# Altium integrated library Analog Devices RF IF PLL Synthesizers and VCOs.IntLib: 183 symbols (part 8 of 15)
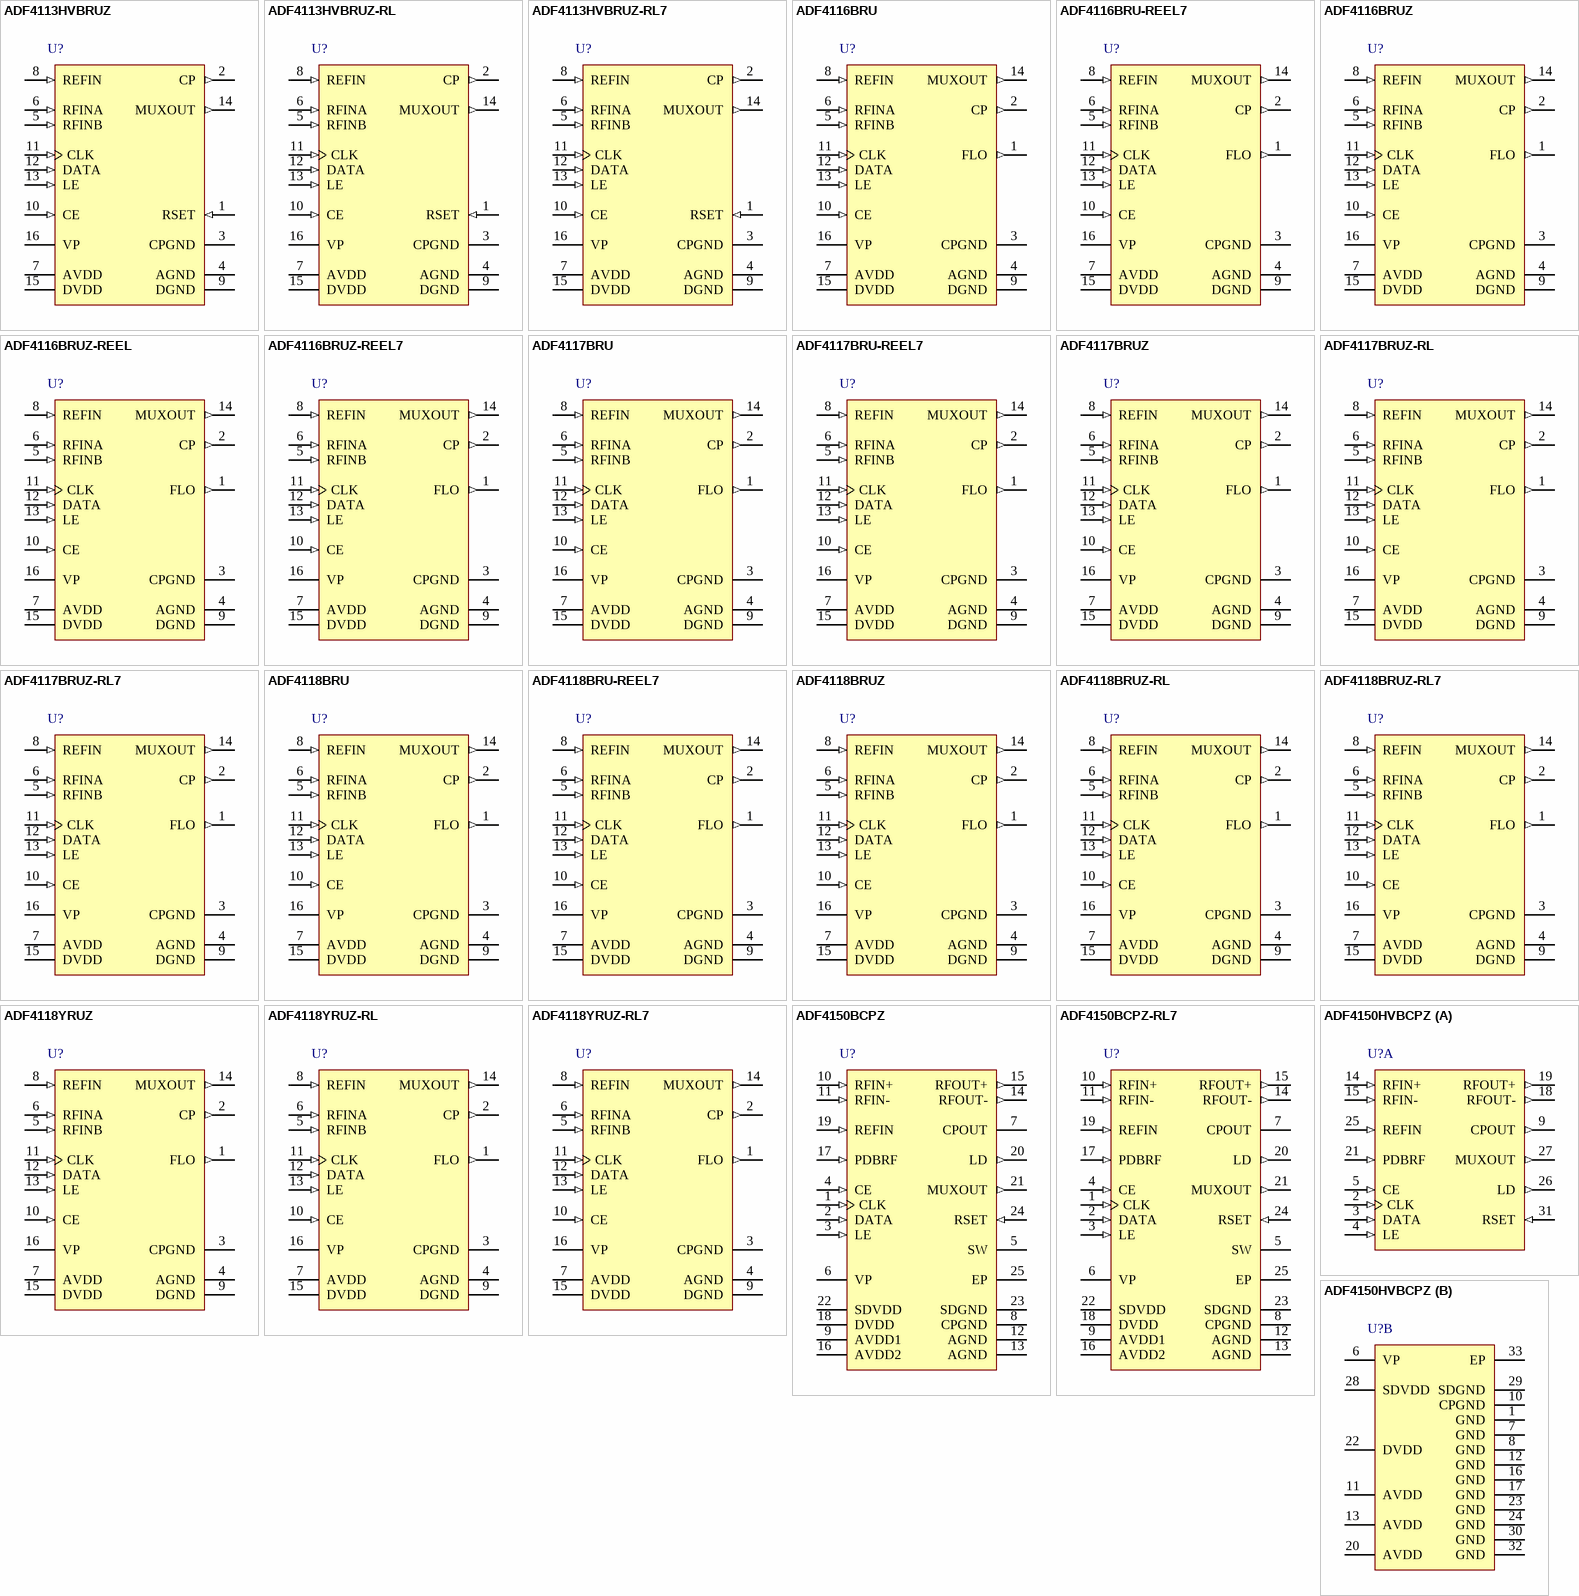
[diagram p15: symbols ADF4113HVBRUZ to ADF4150HVBCPZ]

## ADF4118YRUZ-RL7
designator U?
RF PLL Frequency Synthesizers, RU-16, Pb-Free, 1000 	Reel; Single/Dual: Single; Max RF Input (MHz): 3GHz; RF Prescalers: 32/33; Max REFin (MHz): 100MHz; Norm Phase Noise (dBc/Hz): -216dBc; Frequency Range: 100MHz-3GHz; Supply Current: 6.5mA; DatasheetVersion: Rev. D; PackageVersion: Nov-2002; PackageReference: RU-16; PackageDescription: 16-Lead Thin Shrink Small Outline Package [TSSOP]; Code_JEDEC: MO-153AB; ComponentLink1Description: Manufacturer URL; ComponentLink1URL: www.analog.com; ComponentLink2Description: Datasheet; ComponentLink2URL: http://www.analog.com/static/imported-files/data_sheets/ADF4116_4117_4118.pdf; ComponentLink3Description: Package Specification; ComponentLink3URL: http://www.analog.com/static/imported-files/packages/36244347913743854010197452789RU16.pdf
footprint ADI-RU-16_N (TSOP, 16-Leads, Body 5x4.4mm, Pitch 0.65mm, IPC Medium Density)
footprint ADI-RU-16_L (TSOP, 16-Leads, Body 5x4.4mm, Pitch 0.65mm, IPC High Density)
footprint ADI-RU-16_M (TSOP, 16-Leads, Body 5x4.4mm, Pitch 0.65mm, IPC Low Density)
pins: 1 FLO (out) "Fast Lock Switch Output. This can be used to switch an external resistor to change the loop filter bandwidth and speed up locking the PLL", 2 CP (out) "Charge Pump Output. When enabled, this provides the +/- ICP to the external loop filter, which in turn drives the external VCO.", 3 CPGND (power) "Charge Pump Ground. This is the ground return path for the charge pump", 4 AGND (power) "Analog Ground. This is the ground return path for the prescaler", 5 RFINB (in) "Complementary Input to the RF Prescaler. This point should be decoupled to the ground plane with a small bypass capacitor, typically 100 pF. See Figure 26", 6 RFINA (in) "Input to the RF Prescaler. This small signal input is ac-coupled from the VCO", 7 AVDD (power) "Analog Power Supply. This can range from 2.7 V to 5.5 V. Decoupling capacitors to the analog ground plane should be placed as close as possible to this pin. [see datasheet]", 8 REFIN (in) "Reference Input. This is a CMOS input with a nominal threshold of VDD/2 and an equivalent input resistance of 100 k ohm. See Figure 25. [see datasheet]", 9 DGND (power) "Digital Ground", 10 CE (in) "Chip Enable. A logic low on this pin powers down the device and puts the charge pump output into three-state mode. [see datasheet]", 11 CLK (in) "Serial Clock Input. This serial clock is used to clock in the serial data to the registers. The data is latched into the 21-bit shift register on the CLK rising edge. [see datasheet]", 12 DATA (in) "Serial Data Input. The serial data is loaded MSB first with the two LSBs as the control bits. This input is a high impedance CMOS input", 13 LE (in) "Load Enable, CMOS Input. When LE goes high, the data stored in the shift registers is loaded into one of the four latches, the latch being selected using the control bits", 14 MUXOUT (out) "This multiplexer output allows either the lock detect, the scaled RF, or the scaled reference frequency to be accessed externally", 15 DVDD (power) "Digital Power Supply. This can range from 2.7 V to 5.5 V. Decoupling capacitors to the digital ground plane (1 uF, 1 nF) should be placed as close as possible to this pin. [see datasheet]", 16 VP (power) "Charge Pump Power Supply. This should be greater than or equal to VDD. In systems where VDD is 3 V, this supply can be set to 6 V and used to drive a VCO with a tuning range of up to 6 V"

## ADF4150BCPZ
designator U?
Fractional-N/Integer-N PLL Synthesizer, CP-24-7, Pb-Free, 490 Tray; Single/Dual: Single; Max RF Input (MHz): 5GHz; RF Prescalers: 4/5, 8/9; Max REFin (MHz): 250MHz; Norm Phase Noise (dBc/Hz): -223dBc; Frequency Range: 500MHz-5GHz; Supply Current: 50mA; DatasheetVersion: Rev. 0; PackageVersion: 112108-A; PackageReference: CP-24-7; PackageDescription: 24-Lead Lead Frame Chip Scale Package [LFCSP_WQ]; Code_JEDEC: MO-220-WGGD; ComponentLink1Description: Manufacturer URL; ComponentLink1URL: www.analog.com; ComponentLink2Description: Datasheet; ComponentLink2URL: http://www.analog.com/static/imported-files/data_sheets/ADF4150.pdf; ComponentLink3Description: Package Specification; ComponentLink3URL: http://www.analog.com/static/imported-files/packages/PKG_PDF/LFCSP(CP)/CP_24_7.pdf
footprint ADI-CP-24-7_N (QFN, 24-Leads, Body 4x4mm, Pitch 0.5mm, Thermal Pad 2.6x2.6mm, IPC Medium Density)
footprint ADI-CP-24-7_L (QFN, 24-Leads, Body 4x4mm, Pitch 0.5mm, Thermal Pad 2.6x2.6mm, IPC High Density)
footprint ADI-CP-24-7_M (QFN, 24-Leads, Body 4x4mm, Pitch 0.5mm, Thermal Pad 2.6x2.6mm, IPC Low Density)
pins: 1 CLK (in) "Serial Clock Input. Data is clocked into the 32-bit shift register on the CLK rising edge. This input is a high impedance CMOS input.", 2 DATA (in) "Serial Data Input. The serial data is loaded MSB first with the three LSBs as the control bits. This input is a high impedance CMOS input.", 3 LE (in) "Load Enable, CMOS Input. When LE goes high, the data stored in the shift register is loaded into the register that is selected by the three LSBs.", 4 CE (in) "Chip Enable. A logic low on this pin powers down the device and puts the charge pump into three-state mode. [see datasheet]", 5 SW "Fastlock Switch. Make a connection to this pin from the loop filter when using the fastlock mode.", 6 VP (power) "Charge Pump Power Supply. This pin should be greater than or equal to AVDD. In systems where AVDD is 3 V, it can be set to 5.5 V and used to drive a VCO with a tuning range of up to 5.5 V.", 7 CPOUT (power) "Charge Pump Output. When enabled, this provides +/-ICP to the external loop filter. The output of the loop filter is connected to VTUNE to drive the external VCO.", 8 CPGND (power) "Charge Pump Ground. This is the ground return pin for CPOUT.", 9 AVDD1 (power) "Analog Power Supply. This pin ranges from 3.0 V to 3.6 V. Decoupling capacitors to the analog ground plane are to be placed as close as possible to this pin. [see datasheet]", 10 RFIN+ (in) "Input to the RF Input. This small signal input is ac-coupled to the external VCO.", 11 RFIN- (in) "Complementary Input to the RF Input. This point must be decoupled to the ground plane with a small bypass capacitor, typically 100 pF.", 12 AGND (power) "Analog Ground. This is a ground return pin for AVDD1 and AVDD2.", 13 AGND (power) "Analog Ground. This is a ground return pin for AVDD1 and AVDD2.", 14 RFOUT- (out) "Complementary RF Output. The output level is programmable. The VCO fundamental output or a divided down version is available.", 15 RFOUT+ (out) "RF Output. The output level is programmable. The VCO fundamental output or a divided down version is available.", 16 AVDD2 (power) "Analog Power Supply. This pin ranges from 3.0 V to 3.6 V. Decoupling capacitors to the analog ground plane are to be placed as close as possible to this pin. [see datasheet]", 17 PDBRF (in) "RF Power-Down. A logic low on this pin mutes the RF outputs. This function is also software controllable.", 18 DVDD (power) "Digital Power Supply. This pin should be the same voltage as AVDD. Place decoupling capacitors to the ground plane as close as possible to this pin.", 19 REFIN (in) "Reference Input. This is a CMOS input with a nominal threshold of VDD/2 and a dc equivalent input resistance of 100 k ohm. [see datasheet]", 20 LD (out) "Lock Detect Output Pin. This pin outputs a logic high to indicate PLL lock; a logic low output indicates loss of PLL lock.", 21 MUXOUT (out) "Multiplexer Output. This multiplexer output allows either the lock detect, the scaled RF, or the scaled reference frequency to be accessed externally.", 22 SDVDD (power) "Power Supply Pin for the Digital Sigma-Delta (Sigma-Delta) Modulator. This pin should be the same voltage as AVDD. [see datasheet]", 23 SDGND (power) "Power Supply Pin for the Digital Sigma-Delta (Sigma-Delta) Modulator. This pin should be the same voltage as AVDD. [see datasheet]", 24 RSET (in) "Connecting a resistor between this pin and GND sets the charge pump output current. The nominal voltage bias at the RSET pin is 0.48 V.", 25 EP (power) "The exposed pad must be connected to GND."

## ADF4150BCPZ-RL7
designator U?
Fractional-N/Integer-N PLL Synthesizer, CP-24-7, Pb-Free, 1500 Reel; Single/Dual: Single; Max RF Input (MHz): 5GHz; RF Prescalers: 4/5, 8/9; Max REFin (MHz): 250MHz; Norm Phase Noise (dBc/Hz): -223dBc; Frequency Range: 500MHz-5GHz; Supply Current: 50mA; DatasheetVersion: Rev. 0; PackageVersion: 112108-A; PackageReference: CP-24-7; PackageDescription: 24-Lead Lead Frame Chip Scale Package [LFCSP_WQ]; Code_JEDEC: MO-220-WGGD; ComponentLink1Description: Manufacturer URL; ComponentLink1URL: www.analog.com; ComponentLink2Description: Datasheet; ComponentLink2URL: http://www.analog.com/static/imported-files/data_sheets/ADF4150.pdf; ComponentLink3Description: Package Specification; ComponentLink3URL: http://www.analog.com/static/imported-files/packages/PKG_PDF/LFCSP(CP)/CP_24_7.pdf
footprint ADI-CP-24-7_N (QFN, 24-Leads, Body 4x4mm, Pitch 0.5mm, Thermal Pad 2.6x2.6mm, IPC Medium Density)
footprint ADI-CP-24-7_L (QFN, 24-Leads, Body 4x4mm, Pitch 0.5mm, Thermal Pad 2.6x2.6mm, IPC High Density)
footprint ADI-CP-24-7_M (QFN, 24-Leads, Body 4x4mm, Pitch 0.5mm, Thermal Pad 2.6x2.6mm, IPC Low Density)
pins: 1 CLK (in) "Serial Clock Input. Data is clocked into the 32-bit shift register on the CLK rising edge. This input is a high impedance CMOS input.", 2 DATA (in) "Serial Data Input. The serial data is loaded MSB first with the three LSBs as the control bits. This input is a high impedance CMOS input.", 3 LE (in) "Load Enable, CMOS Input. When LE goes high, the data stored in the shift register is loaded into the register that is selected by the three LSBs.", 4 CE (in) "Chip Enable. A logic low on this pin powers down the device and puts the charge pump into three-state mode. [see datasheet]", 5 SW "Fastlock Switch. Make a connection to this pin from the loop filter when using the fastlock mode.", 6 VP (power) "Charge Pump Power Supply. This pin should be greater than or equal to AVDD. In systems where AVDD is 3 V, it can be set to 5.5 V and used to drive a VCO with a tuning range of up to 5.5 V.", 7 CPOUT (power) "Charge Pump Output. When enabled, this provides +/-ICP to the external loop filter. The output of the loop filter is connected to VTUNE to drive the external VCO.", 8 CPGND (power) "Charge Pump Ground. This is the ground return pin for CPOUT.", 9 AVDD1 (power) "Analog Power Supply. This pin ranges from 3.0 V to 3.6 V. Decoupling capacitors to the analog ground plane are to be placed as close as possible to this pin. [see datasheet]", 10 RFIN+ (in) "Input to the RF Input. This small signal input is ac-coupled to the external VCO.", 11 RFIN- (in) "Complementary Input to the RF Input. This point must be decoupled to the ground plane with a small bypass capacitor, typically 100 pF.", 12 AGND (power) "Analog Ground. This is a ground return pin for AVDD1 and AVDD2.", 13 AGND (power) "Analog Ground. This is a ground return pin for AVDD1 and AVDD2.", 14 RFOUT- (out) "Complementary RF Output. The output level is programmable. The VCO fundamental output or a divided down version is available.", 15 RFOUT+ (out) "RF Output. The output level is programmable. The VCO fundamental output or a divided down version is available.", 16 AVDD2 (power) "Analog Power Supply. This pin ranges from 3.0 V to 3.6 V. Decoupling capacitors to the analog ground plane are to be placed as close as possible to this pin. [see datasheet]", 17 PDBRF (in) "RF Power-Down. A logic low on this pin mutes the RF outputs. This function is also software controllable.", 18 DVDD (power) "Digital Power Supply. This pin should be the same voltage as AVDD. Place decoupling capacitors to the ground plane as close as possible to this pin.", 19 REFIN (in) "Reference Input. This is a CMOS input with a nominal threshold of VDD/2 and a dc equivalent input resistance of 100 k ohm. [see datasheet]", 20 LD (out) "Lock Detect Output Pin. This pin outputs a logic high to indicate PLL lock; a logic low output indicates loss of PLL lock.", 21 MUXOUT (out) "Multiplexer Output. This multiplexer output allows either the lock detect, the scaled RF, or the scaled reference frequency to be accessed externally.", 22 SDVDD (power) "Power Supply Pin for the Digital Sigma-Delta (Sigma-Delta) Modulator. This pin should be the same voltage as AVDD. [see datasheet]", 23 SDGND (power) "Power Supply Pin for the Digital Sigma-Delta (Sigma-Delta) Modulator. This pin should be the same voltage as AVDD. [see datasheet]", 24 RSET (in) "Connecting a resistor between this pin and GND sets the charge pump output current. The nominal voltage bias at the RSET pin is 0.48 V.", 25 EP (power) "The exposed pad must be connected to GND."

## ADF4150HVBCPZ
designator U?
High Voltage, Fractional-N/Integer-N PLL Synthesizer, CP-32-11, Pb-Free, 490 Tray; Single/Dual: Single; Max RF Input (MHz): 3GHz; RF Prescalers: 4/5, 8/9; Max REFin (MHz): 250MHz; Norm Phase Noise (dBc/Hz): -213dBc; Frequency Range: 500MHz-3GHz; Supply Current: 50mA; DatasheetVersion: Rev. 0; PackageVersion: 011708-A; PackageReference: CP-32-11; PackageDescription: 32-Lead Lead Frame Chip Scale Package [LFCSP_VQ]; ComponentLink1Description: Manufacturer URL; ComponentLink1URL: www.analog.com; ComponentLink2Description: Datasheet; ComponentLink2URL: http://www.analog.com/static/imported-files/data_sheets/ADF4150HV.pdf; ComponentLink3Description: Package Specification; ComponentLink3URL: http://www.analog.com/static/imported-files/packages/PKG_PDF/LFCSP(CP)/CP-32/CP_32_11.pdf
footprint ADI-CP-32-11_N (QFN, 32-Leads, Body 5x5mm, Pitch 0.5mm, Thermal Pad 3.6x3.6mm, IPC Medium Density)
footprint ADI-CP-32-11_L (QFN, 32-Leads, Body 5x5mm, Pitch 0.5mm, Thermal Pad 3.6x3.6mm, IPC High Density)
footprint ADI-CP-32-11_M (QFN, 32-Leads, Body 5x5mm, Pitch 0.5mm, Thermal Pad 3.6x3.6mm, IPC Low Density)
part A pins: 2 CLK (in) "Serial Clock Input. Data is clocked into the 32-bit shift register on the CLK rising edge. This input is a high impedance CMOS input.", 3 DATA (in) "Serial Data Input. The serial data is loaded MSB first with the three LSBs as the control bits. This input is a high impedance CMOS input.", 4 LE (in) "Load Enable. When LE goes high, the data stored in the 32-bit shift register is loaded into the register that is selected by the three control bits. [see datasheet]", 5 CE (in) "Chip Enable. A logic low on this pin powers down the device and puts the charge pump into three-state mode. A logic high on this pin powers up the device.", 9 CPOUT (out) "High Voltage Charge Pump Output. When enabled, this output provides +/-ICP to the external passive loop filter. [see datasheet]", 14 RFIN+ (in) "Positive RF Input. The output of the VCO or external prescaler should be ac-coupled to this pin.", 15 RFIN- (in) "Complementary RF Input. If a single-ended input is required, this pin can be tied to ground via a 100 pF capacitor.", 18 RFOUT- (out) "Divided-Down Output of RFIN-. This pin can be left unconnected if the divider functionality is not required.", 19 RFOUT+ (out) "Divided-Down Output of RFIN+. This pin can be left unconnected if the divider functionality is not required.", 21 PDBRF (in) "RF Power-Down. A logic low on this pin mutes the RF outputs. This function is also software controllable.", 25 REFIN (in) "Reference Input. This CMOS input has a nominal threshold of AVDD/2 and a dc equivalent input resistance of 100 k ohm. [see datasheet]", 26 LD (out) "Lock Detect Output. A logic high output on this pin indicates PLL lock. A logic low output indicates loss of PLL lock.", 27 MUXOUT (out) "Multiplexer Output. The multiplexer output allows the lock detect, the N divider value, or the R counter value to be accessed externally.", 31 RSET (in) "Connecting a resistor between this pin and GND sets the charge pump output current. Place the resistor as close to this pin as possible. The nominal voltage bias at the RSET pin is 0.55 V."
part B pins: 1 GND (power) "Ground. All ground pins should be tied together.", 6 VP (power) "High Voltage Charge Pump Power Supply. Place decoupling capacitors to the ground plane as close to this pin as possible. The decoupling capacitors should have the appropriate voltage rating (a value of 10 uF is recommended). [see datasheet]", 7 GND (power) "Ground. All ground pins should be tied together.", 8 GND (power) "Ground. All ground pins should be tied together.", 10 CPGND (power) "High Voltage Charge Pump Ground. All ground pins should be tied together.", 11 AVDD (power) "Analog Power Supply. This pin ranges from 3.0 V to 3.6 V. Place decoupling capacitors to the ground plane as close to this pin as possible. AVDD must have the same value as DVDD.", 12 GND (power) "Ground. All ground pins should be tied together.", 13 AVDD (power) "Analog Power Supply. This pin ranges from 3.0 V to 3.6 V. Place decoupling capacitors to the ground plane as close to this pin as possible. AVDD must have the same value as DVDD.", 16 GND (power) "Ground. All ground pins should be tied together.", 17 GND (power) "Ground. All ground pins should be tied together.", 20 AVDD (power) "Analog Power Supply. This pin ranges from 3.0 V to 3.6 V. Place decoupling capacitors to the ground plane as close to this pin as possible. AVDD must have the same value as DVDD.", 22 DVDD (power) "Digital Power Supply. Place decoupling capacitors to the ground plane as close to this pin as possible. DVDD must have the same value as AVDD.", 23 GND (power) "Ground. All ground pins should be tied together.", 24 GND (power) "Ground. All ground pins should be tied together.", 28 SDVDD (power) "Digital Sigma-Delta Modulator Power Supply. Place decoupling capacitors to the ground plane as close to this pin as possible. SDVDD must have the same value as AVDD.", 29 SDGND (power) "Digital Sigma-Delta Modulator Ground. All ground pins should be tied together.", 30 GND (power) "Ground. All ground pins should be tied together.", 32 GND (power) "Ground. All ground pins should be tied together.", 33 EP (power) "Exposed Pad. The LFCSP has an exposed pad that must be connected to GND."

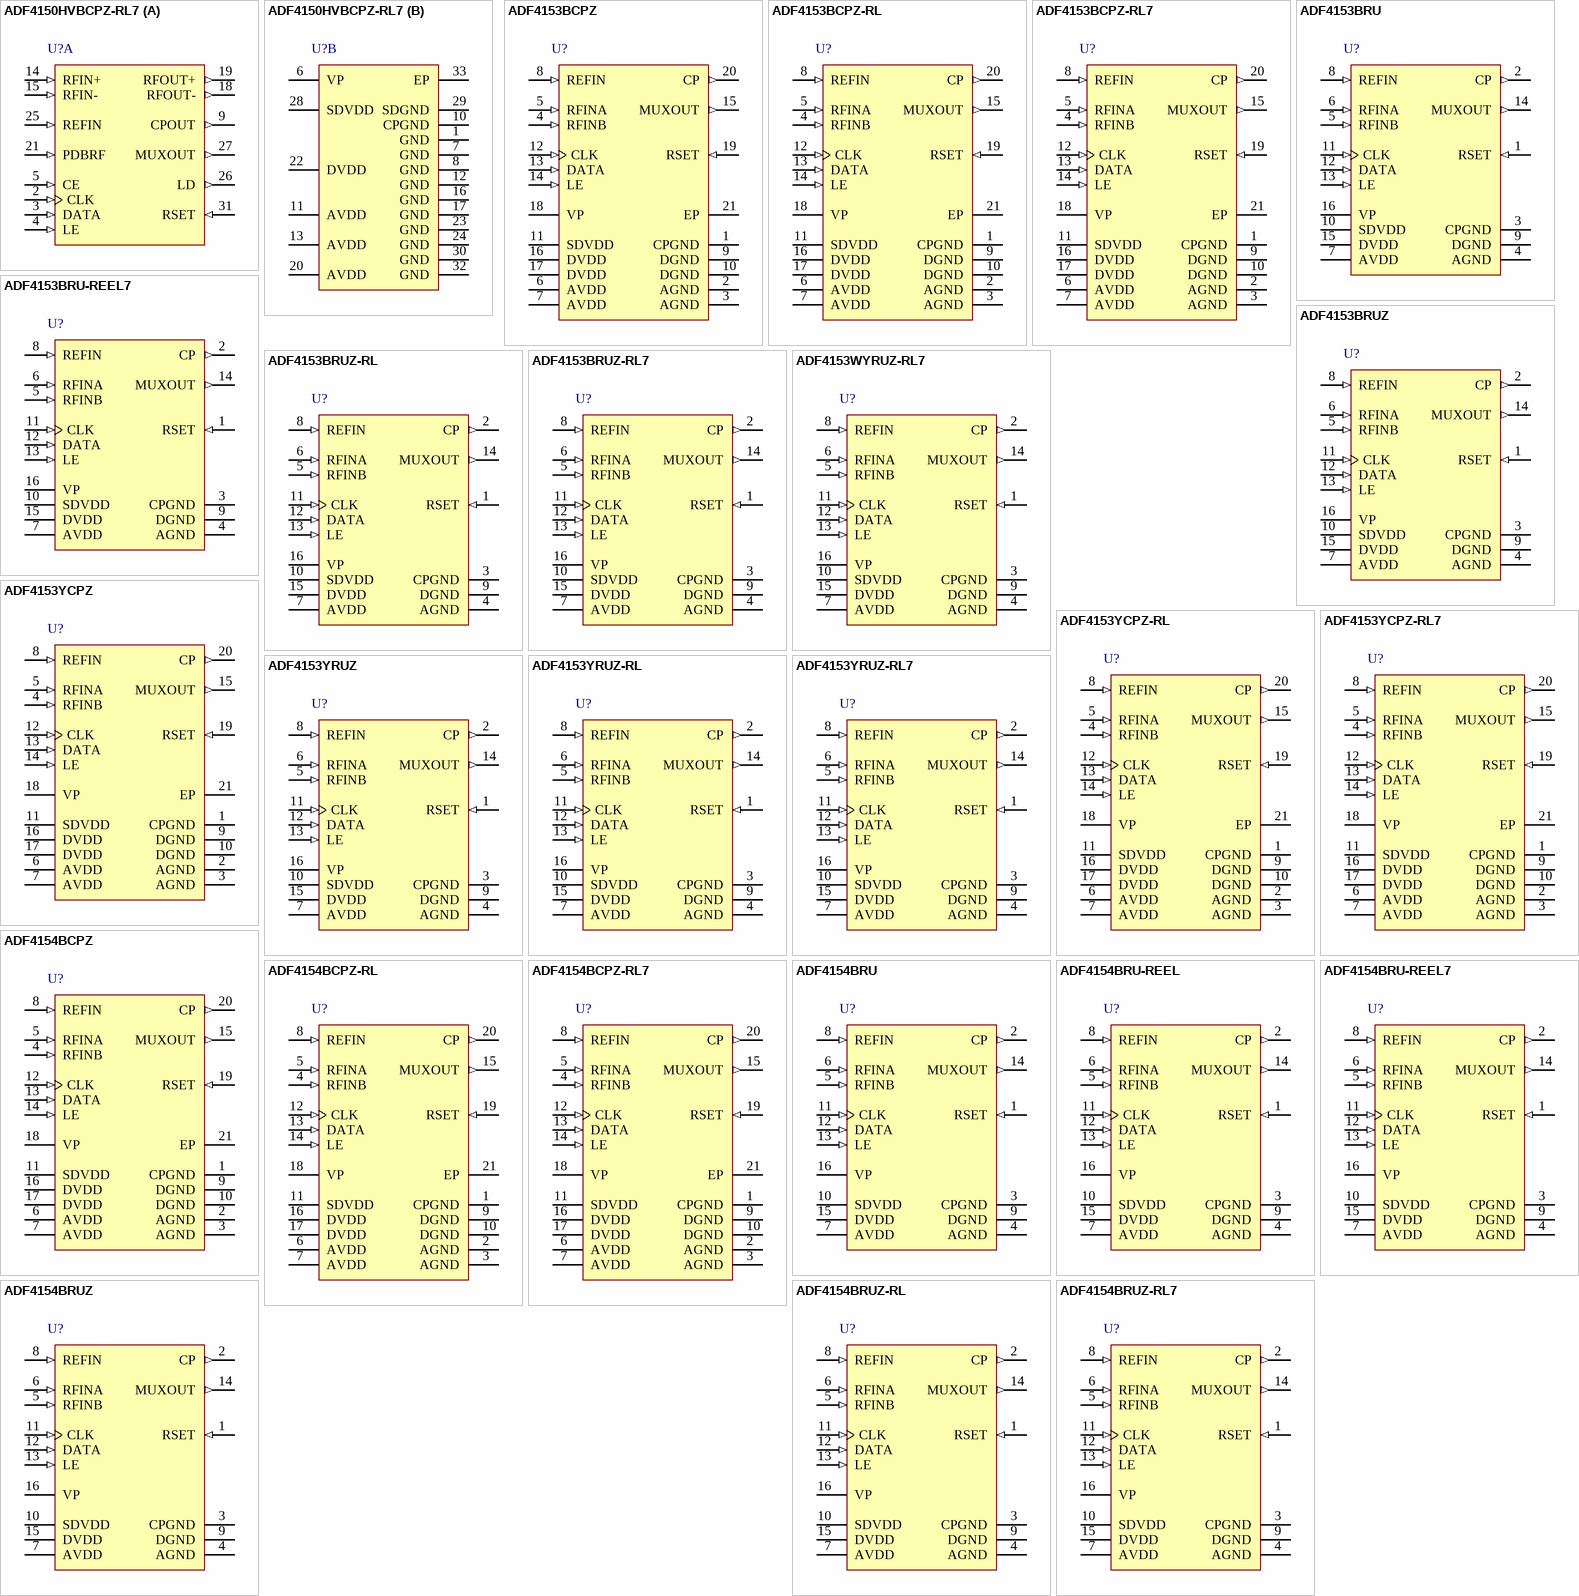
[diagram p4: symbols ADF4150HVBCPZ-RL7 to ADF4154BRUZ-RL7]

## ADF4150HVBCPZ-RL7
designator U?
High Voltage, Fractional-N/Integer-N PLL Synthesizer, CP-32-11, Pb-Free, 1500 Reel; Single/Dual: Single; Max RF Input (MHz): 3GHz; RF Prescalers: 4/5, 8/9; Max REFin (MHz): 250MHz; Norm Phase Noise (dBc/Hz): -213dBc; Frequency Range: 500MHz-3GHz; Supply Current: 50mA; DatasheetVersion: Rev. 0; PackageVersion: 011708-A; PackageReference: CP-32-11; PackageDescription: 32-Lead Lead Frame Chip Scale Package [LFCSP_VQ]; ComponentLink1Description: Manufacturer URL; ComponentLink1URL: www.analog.com; ComponentLink2Description: Datasheet; ComponentLink2URL: http://www.analog.com/static/imported-files/data_sheets/ADF4150HV.pdf; ComponentLink3Description: Package Specification; ComponentLink3URL: http://www.analog.com/static/imported-files/packages/PKG_PDF/LFCSP(CP)/CP-32/CP_32_11.pdf
footprint ADI-CP-32-11_N (QFN, 32-Leads, Body 5x5mm, Pitch 0.5mm, Thermal Pad 3.6x3.6mm, IPC Medium Density)
footprint ADI-CP-32-11_L (QFN, 32-Leads, Body 5x5mm, Pitch 0.5mm, Thermal Pad 3.6x3.6mm, IPC High Density)
footprint ADI-CP-32-11_M (QFN, 32-Leads, Body 5x5mm, Pitch 0.5mm, Thermal Pad 3.6x3.6mm, IPC Low Density)
part A pins: 2 CLK (in) "Serial Clock Input. Data is clocked into the 32-bit shift register on the CLK rising edge. This input is a high impedance CMOS input.", 3 DATA (in) "Serial Data Input. The serial data is loaded MSB first with the three LSBs as the control bits. This input is a high impedance CMOS input.", 4 LE (in) "Load Enable. When LE goes high, the data stored in the 32-bit shift register is loaded into the register that is selected by the three control bits. [see datasheet]", 5 CE (in) "Chip Enable. A logic low on this pin powers down the device and puts the charge pump into three-state mode. A logic high on this pin powers up the device.", 9 CPOUT (out) "High Voltage Charge Pump Output. When enabled, this output provides +/-ICP to the external passive loop filter. [see datasheet]", 14 RFIN+ (in) "Positive RF Input. The output of the VCO or external prescaler should be ac-coupled to this pin.", 15 RFIN- (in) "Complementary RF Input. If a single-ended input is required, this pin can be tied to ground via a 100 pF capacitor.", 18 RFOUT- (out) "Divided-Down Output of RFIN-. This pin can be left unconnected if the divider functionality is not required.", 19 RFOUT+ (out) "Divided-Down Output of RFIN+. This pin can be left unconnected if the divider functionality is not required.", 21 PDBRF (in) "RF Power-Down. A logic low on this pin mutes the RF outputs. This function is also software controllable.", 25 REFIN (in) "Reference Input. This CMOS input has a nominal threshold of AVDD/2 and a dc equivalent input resistance of 100 k ohm. [see datasheet]", 26 LD (out) "Lock Detect Output. A logic high output on this pin indicates PLL lock. A logic low output indicates loss of PLL lock.", 27 MUXOUT (out) "Multiplexer Output. The multiplexer output allows the lock detect, the N divider value, or the R counter value to be accessed externally.", 31 RSET (in) "Connecting a resistor between this pin and GND sets the charge pump output current. Place the resistor as close to this pin as possible. The nominal voltage bias at the RSET pin is 0.55 V."
part B pins: 1 GND (power) "Ground. All ground pins should be tied together.", 6 VP (power) "High Voltage Charge Pump Power Supply. Place decoupling capacitors to the ground plane as close to this pin as possible. The decoupling capacitors should have the appropriate voltage rating (a value of 10 uF is recommended). [see datasheet]", 7 GND (power) "Ground. All ground pins should be tied together.", 8 GND (power) "Ground. All ground pins should be tied together.", 10 CPGND (power) "High Voltage Charge Pump Ground. All ground pins should be tied together.", 11 AVDD (power) "Analog Power Supply. This pin ranges from 3.0 V to 3.6 V. Place decoupling capacitors to the ground plane as close to this pin as possible. AVDD must have the same value as DVDD.", 12 GND (power) "Ground. All ground pins should be tied together.", 13 AVDD (power) "Analog Power Supply. This pin ranges from 3.0 V to 3.6 V. Place decoupling capacitors to the ground plane as close to this pin as possible. AVDD must have the same value as DVDD.", 16 GND (power) "Ground. All ground pins should be tied together.", 17 GND (power) "Ground. All ground pins should be tied together.", 20 AVDD (power) "Analog Power Supply. This pin ranges from 3.0 V to 3.6 V. Place decoupling capacitors to the ground plane as close to this pin as possible. AVDD must have the same value as DVDD.", 22 DVDD (power) "Digital Power Supply. Place decoupling capacitors to the ground plane as close to this pin as possible. DVDD must have the same value as AVDD.", 23 GND (power) "Ground. All ground pins should be tied together.", 24 GND (power) "Ground. All ground pins should be tied together.", 28 SDVDD (power) "Digital Sigma-Delta Modulator Power Supply. Place decoupling capacitors to the ground plane as close to this pin as possible. SDVDD must have the same value as AVDD.", 29 SDGND (power) "Digital Sigma-Delta Modulator Ground. All ground pins should be tied together.", 30 GND (power) "Ground. All ground pins should be tied together.", 32 GND (power) "Ground. All ground pins should be tied together.", 33 EP (power) "Exposed Pad. The LFCSP has an exposed pad that must be connected to GND."

## ADF4153BCPZ
designator U?
Fractional-N Frequency Synthesizer, CP-20-1, Pb-Free, 490 Tray; Single/Dual: Single; Max RF Input (MHz): 4GHz; RF Prescalers: 4/5, 8/9; Max REFin (MHz): 250MHz; Norm Phase Noise (dBc/Hz): -220dBc; Supply Current: 20mA; DatasheetVersion: RevD; PackageVersion: 012508-B; PackageReference: CP-20-1; PackageDescription: 20-Lead Lead Frame Chip Scale Package [LFCSP_VQ]; Code_JEDEC: MO-220-VGGD-1; ComponentLink1Description: Manufacturer URL; ComponentLink1URL: www.analog.com; ComponentLink2Description: Datasheet; ComponentLink2URL: http://www.analog.com/static/imported-files/data_sheets/ADF4153.pdf; ComponentLink3Description: Package Specification; ComponentLink3URL: http://www.analog.com/static/imported-files/packages/PKG_PDF/LFCSP(CP)/CP_20_1.pdf
footprint ADI-CP-20-1_N (QFN, 20-Leads, Body 4x4mm, Pitch 0.5mm, Thermal Pad 2.2x2.2mm, IPC Medium Density)
footprint ADI-CP-20-1_L (QFN, 20-Leads, Body 4x4mm, Pitch 0.5mm, Thermal Pad 2.2x2.2mm, IPC High Density)
footprint ADI-CP-20-1_M (QFN, 20-Leads, Body 4x4mm, Pitch 0.5mm, Thermal Pad 2.2x2.2mm, IPC Low Density)
pins: 1 CPGND (power) "Charge Pump Ground. This is the ground return path for the charge pump.", 2 AGND (power) "Analog Ground. This is the ground return path of the prescaler.", 3 AGND (power) "Analog Ground. This is the ground return path of the prescaler.", 4 RFINB (in) "Complementary Input to the RF Prescaler. This pin should be decoupled to the ground plane with a small bypass capacitor, typically 100 pF", 5 RFINA (in) "Input to the RF Prescaler. This small signal input is normally ac-coupled from the VCO.", 6 AVDD (power) "Positive Power Supply for the RF Section. Decoupling capacitors to the digital ground plane should be placed as close as possible to this pin. [see datasheet]", 7 AVDD (power) "Positive Power Supply for the RF Section. Decoupling capacitors to the digital ground plane should be placed as close as possible to this pin. [see datasheet]", 8 REFIN (in) "Reference Input. This is a CMOS input with a nominal threshold of VDD/2 and an equivalent input resistance of 100 k ohm. [see datasheet]", 9 DGND (power) "Digital Ground.", 10 DGND (power) "Digital Ground.", 11 SDVDD (power) "Sigma-delta Power. Decoupling capacitors to the digital ground plane should be placed as close as possible to this pin. SDVDD has a value of 3 V +/- 10%. [see datasheet]", 12 CLK (in) "Serial Clock Input. The serial clock is used to clock in the serial data to the registers. The data is latched into the shift register on the CLK rising edge. [see datasheet]", 13 DATA (in) "Serial Data Input. The serial data is loaded MSB first; the two LSBs are the control bits. This input is a high impedance CMOS input.", 14 LE (in) "Load Enable, CMOS Input. When LE is high, the data stored in the shift registers is loaded into one of four latches; the latch is selected using the control bits.", 15 MUXOUT (out) "This multiplexer output allows either the RF lock detect, the scaled RF, or the scaled reference frequency to be externally accessed.", 16 DVDD (power) "Positive Power Supply for the Digital Section. Decoupling capacitors to the digital ground plane should be placed as close as possible to this pin. [see datasheet]", 17 DVDD (power) "Positive Power Supply for the Digital Section. Decoupling capacitors to the digital ground plane should be placed as close as possible to this pin. [see datasheet]", 18 VP (power) "Charge Pump Power Supply. This should be greater than or equal to VDD. In systems where VDD is 3 V, it can be set to 5.5 V and used to drive a VCO with a tuning range of up to 5.5 V.", 19 RSET (in) "Connecting a resistor between RSET and ground sets the maximum charge pump output current", 20 CP (out) "Charge Pump Output. When enabled, CP provides +/-ICP to the external loop filter, which in turn drives the external VCO.", 21 EP (power) "Exposed Pad. The exposed pad must be connected to AGND."

## ADF4153BCPZ-RL
designator U?
Fractional-N Frequency Synthesizer, CP-20-1, Pb-Free, 5000 Reel; Single/Dual: Single; Max RF Input (MHz): 4GHz; RF Prescalers: 4/5, 8/9; Max REFin (MHz): 250MHz; Norm Phase Noise (dBc/Hz): -220dBc; Supply Current: 20mA; DatasheetVersion: RevD; PackageVersion: 012508-B; PackageReference: CP-20-1; PackageDescription: 20-Lead Lead Frame Chip Scale Package [LFCSP_VQ]; Code_JEDEC: MO-220-VGGD-1; ComponentLink1Description: Manufacturer URL; ComponentLink1URL: www.analog.com; ComponentLink2Description: Datasheet; ComponentLink2URL: http://www.analog.com/static/imported-files/data_sheets/ADF4153.pdf; ComponentLink3Description: Package Specification; ComponentLink3URL: http://www.analog.com/static/imported-files/packages/PKG_PDF/LFCSP(CP)/CP_20_1.pdf
footprint ADI-CP-20-1_N (QFN, 20-Leads, Body 4x4mm, Pitch 0.5mm, Thermal Pad 2.2x2.2mm, IPC Medium Density)
footprint ADI-CP-20-1_L (QFN, 20-Leads, Body 4x4mm, Pitch 0.5mm, Thermal Pad 2.2x2.2mm, IPC High Density)
footprint ADI-CP-20-1_M (QFN, 20-Leads, Body 4x4mm, Pitch 0.5mm, Thermal Pad 2.2x2.2mm, IPC Low Density)
pins: 1 CPGND (power) "Charge Pump Ground. This is the ground return path for the charge pump.", 2 AGND (power) "Analog Ground. This is the ground return path of the prescaler.", 3 AGND (power) "Analog Ground. This is the ground return path of the prescaler.", 4 RFINB (in) "Complementary Input to the RF Prescaler. This pin should be decoupled to the ground plane with a small bypass capacitor, typically 100 pF", 5 RFINA (in) "Input to the RF Prescaler. This small signal input is normally ac-coupled from the VCO.", 6 AVDD (power) "Positive Power Supply for the RF Section. Decoupling capacitors to the digital ground plane should be placed as close as possible to this pin. [see datasheet]", 7 AVDD (power) "Positive Power Supply for the RF Section. Decoupling capacitors to the digital ground plane should be placed as close as possible to this pin. [see datasheet]", 8 REFIN (in) "Reference Input. This is a CMOS input with a nominal threshold of VDD/2 and an equivalent input resistance of 100 k ohm. [see datasheet]", 9 DGND (power) "Digital Ground.", 10 DGND (power) "Digital Ground.", 11 SDVDD (power) "Sigma-delta Power. Decoupling capacitors to the digital ground plane should be placed as close as possible to this pin. SDVDD has a value of 3 V +/- 10%. [see datasheet]", 12 CLK (in) "Serial Clock Input. The serial clock is used to clock in the serial data to the registers. The data is latched into the shift register on the CLK rising edge. [see datasheet]", 13 DATA (in) "Serial Data Input. The serial data is loaded MSB first; the two LSBs are the control bits. This input is a high impedance CMOS input.", 14 LE (in) "Load Enable, CMOS Input. When LE is high, the data stored in the shift registers is loaded into one of four latches; the latch is selected using the control bits.", 15 MUXOUT (out) "This multiplexer output allows either the RF lock detect, the scaled RF, or the scaled reference frequency to be externally accessed.", 16 DVDD (power) "Positive Power Supply for the Digital Section. Decoupling capacitors to the digital ground plane should be placed as close as possible to this pin. [see datasheet]", 17 DVDD (power) "Positive Power Supply for the Digital Section. Decoupling capacitors to the digital ground plane should be placed as close as possible to this pin. [see datasheet]", 18 VP (power) "Charge Pump Power Supply. This should be greater than or equal to VDD. In systems where VDD is 3 V, it can be set to 5.5 V and used to drive a VCO with a tuning range of up to 5.5 V.", 19 RSET (in) "Connecting a resistor between RSET and ground sets the maximum charge pump output current", 20 CP (out) "Charge Pump Output. When enabled, CP provides +/-ICP to the external loop filter, which in turn drives the external VCO.", 21 EP (power) "Exposed Pad. The exposed pad must be connected to AGND."

## ADF4153BCPZ-RL7
designator U?
Fractional-N Frequency Synthesizer, CP-20-1, Pb-Free, 1500 Reel; Single/Dual: Single; Max RF Input (MHz): 4GHz; RF Prescalers: 4/5, 8/9; Max REFin (MHz): 250MHz; Norm Phase Noise (dBc/Hz): -220dBc; Supply Current: 20mA; DatasheetVersion: RevD; PackageVersion: 012508-B; PackageReference: CP-20-1; PackageDescription: 20-Lead Lead Frame Chip Scale Package [LFCSP_VQ]; Code_JEDEC: MO-220-VGGD-1; ComponentLink1Description: Manufacturer URL; ComponentLink1URL: www.analog.com; ComponentLink2Description: Datasheet; ComponentLink2URL: http://www.analog.com/static/imported-files/data_sheets/ADF4153.pdf; ComponentLink3Description: Package Specification; ComponentLink3URL: http://www.analog.com/static/imported-files/packages/PKG_PDF/LFCSP(CP)/CP_20_1.pdf
footprint ADI-CP-20-1_N (QFN, 20-Leads, Body 4x4mm, Pitch 0.5mm, Thermal Pad 2.2x2.2mm, IPC Medium Density)
footprint ADI-CP-20-1_L (QFN, 20-Leads, Body 4x4mm, Pitch 0.5mm, Thermal Pad 2.2x2.2mm, IPC High Density)
footprint ADI-CP-20-1_M (QFN, 20-Leads, Body 4x4mm, Pitch 0.5mm, Thermal Pad 2.2x2.2mm, IPC Low Density)
pins: 1 CPGND (power) "Charge Pump Ground. This is the ground return path for the charge pump.", 2 AGND (power) "Analog Ground. This is the ground return path of the prescaler.", 3 AGND (power) "Analog Ground. This is the ground return path of the prescaler.", 4 RFINB (in) "Complementary Input to the RF Prescaler. This pin should be decoupled to the ground plane with a small bypass capacitor, typically 100 pF", 5 RFINA (in) "Input to the RF Prescaler. This small signal input is normally ac-coupled from the VCO.", 6 AVDD (power) "Positive Power Supply for the RF Section. Decoupling capacitors to the digital ground plane should be placed as close as possible to this pin. [see datasheet]", 7 AVDD (power) "Positive Power Supply for the RF Section. Decoupling capacitors to the digital ground plane should be placed as close as possible to this pin. [see datasheet]", 8 REFIN (in) "Reference Input. This is a CMOS input with a nominal threshold of VDD/2 and an equivalent input resistance of 100 k ohm. [see datasheet]", 9 DGND (power) "Digital Ground.", 10 DGND (power) "Digital Ground.", 11 SDVDD (power) "Sigma-delta Power. Decoupling capacitors to the digital ground plane should be placed as close as possible to this pin. SDVDD has a value of 3 V +/- 10%. [see datasheet]", 12 CLK (in) "Serial Clock Input. The serial clock is used to clock in the serial data to the registers. The data is latched into the shift register on the CLK rising edge. [see datasheet]", 13 DATA (in) "Serial Data Input. The serial data is loaded MSB first; the two LSBs are the control bits. This input is a high impedance CMOS input.", 14 LE (in) "Load Enable, CMOS Input. When LE is high, the data stored in the shift registers is loaded into one of four latches; the latch is selected using the control bits.", 15 MUXOUT (out) "This multiplexer output allows either the RF lock detect, the scaled RF, or the scaled reference frequency to be externally accessed.", 16 DVDD (power) "Positive Power Supply for the Digital Section. Decoupling capacitors to the digital ground plane should be placed as close as possible to this pin. [see datasheet]", 17 DVDD (power) "Positive Power Supply for the Digital Section. Decoupling capacitors to the digital ground plane should be placed as close as possible to this pin. [see datasheet]", 18 VP (power) "Charge Pump Power Supply. This should be greater than or equal to VDD. In systems where VDD is 3 V, it can be set to 5.5 V and used to drive a VCO with a tuning range of up to 5.5 V.", 19 RSET (in) "Connecting a resistor between RSET and ground sets the maximum charge pump output current", 20 CP (out) "Charge Pump Output. When enabled, CP provides +/-ICP to the external loop filter, which in turn drives the external VCO.", 21 EP (power) "Exposed Pad. The exposed pad must be connected to AGND."

## ADF4153BRU
designator U?
Fractional-N Frequency Synthesizer, RU-16, blank, 96 Tray; Single/Dual: Single; Max RF Input (MHz): 4GHz; RF Prescalers: 4/5, 8/9; Max REFin (MHz): 250MHz; Norm Phase Noise (dBc/Hz): -220dBc; Supply Current: 20mA; DatasheetVersion: RevD; PackageVersion: Nov-2002; PackageReference: RU-16; PackageDescription: 16-Lead Thin Shrink Small Outline Package [TSSOP]; Code_JEDEC: MO-153AB; ComponentLink1Description: Manufacturer URL; ComponentLink1URL: www.analog.com; ComponentLink2Description: Datasheet; ComponentLink2URL: http://www.analog.com/static/imported-files/data_sheets/ADF4153.pdf; ComponentLink3Description: Package Specification; ComponentLink3URL: http://www.analog.com/static/imported-files/packages/36244347913743854010197452789RU16.pdf
footprint ADI-RU-16_N (TSOP, 16-Leads, Body 5x4.4mm, Pitch 0.65mm, IPC Medium Density)
footprint ADI-RU-16_L (TSOP, 16-Leads, Body 5x4.4mm, Pitch 0.65mm, IPC High Density)
footprint ADI-RU-16_M (TSOP, 16-Leads, Body 5x4.4mm, Pitch 0.65mm, IPC Low Density)
pins: 1 RSET (in) "Connecting a resistor between RSET and ground sets the maximum charge pump output current", 2 CP (out) "Charge Pump Output. When enabled, CP provides +/-ICP to the external loop filter, which in turn drives the external VCO.", 3 CPGND (power) "Charge Pump Ground. This is the ground return path for the charge pump.", 4 AGND (power) "Analog Ground. This is the ground return path of the prescaler.", 5 RFINB (in) "Complementary Input to the RF Prescaler. This pin should be decoupled to the ground plane with a small bypass capacitor, typically 100 pF", 6 RFINA (in) "Input to the RF Prescaler. This small signal input is normally ac-coupled from the VCO.", 7 AVDD (power) "Positive Power Supply for the RF Section. Decoupling capacitors to the digital ground plane should be placed as close as possible to this pin. [see datasheet]", 8 REFIN (in) "Reference Input. This is a CMOS input with a nominal threshold of VDD/2 and an equivalent input resistance of 100 k ohm. [see datasheet]", 9 DGND (power) "Digital Ground.", 10 SDVDD (power) "Sigma-Delta Power. Decoupling capacitors to the digital ground plane should be placed as close as possible to this pin. SDVDD has a value of 3 V+/-10%. [see datasheet]", 11 CLK (in) "Serial Clock Input. The serial clock is used to clock in the serial data to the registers. The data is latched into the shift register on the CLK rising edge. [see datasheet]", 12 DATA (in) "Serial Data Input. The serial data is loaded MSB first; the two LSBs are the control bits. This input is a high impedance CMOS input.", 13 LE (in) "Load Enable, CMOS Input. When LE is high, the data stored in the shift registers is loaded into one of four latches; the latch is selected using the control bits.", 14 MUXOUT (out) "This multiplexer output allows either the RF lock detect, the scaled RF, or the scaled reference frequency to be externally accessed.", 15 DVDD (power) "Positive Power Supply for the Digital Section. Decoupling capacitors to the digital ground plane should be placed as close as possible to this pin. [see datasheet]", 16 VP (power) "Charge Pump Power Supply. This should be greater than or equal to VDD. In systems where VDD is 3 V, it can be set to 5.5 V and used to drive a VCO with a tuning range of up to 5.5 V."

## ADF4153BRU-REEL7
designator U?
Fractional-N Frequency Synthesizer, RU-16, blank, 1000 Reel; Single/Dual: Single; Max RF Input (MHz): 4GHz; RF Prescalers: 4/5, 8/9; Max REFin (MHz): 250MHz; Norm Phase Noise (dBc/Hz): -220dBc; Supply Current: 20mA; DatasheetVersion: RevD; PackageVersion: Nov-2002; PackageReference: RU-16; PackageDescription: 16-Lead Thin Shrink Small Outline Package [TSSOP]; Code_JEDEC: MO-153AB; ComponentLink1Description: Manufacturer URL; ComponentLink1URL: www.analog.com; ComponentLink2Description: Datasheet; ComponentLink2URL: http://www.analog.com/static/imported-files/data_sheets/ADF4153.pdf; ComponentLink3Description: Package Specification; ComponentLink3URL: http://www.analog.com/static/imported-files/packages/36244347913743854010197452789RU16.pdf
footprint ADI-RU-16_N (TSOP, 16-Leads, Body 5x4.4mm, Pitch 0.65mm, IPC Medium Density)
footprint ADI-RU-16_L (TSOP, 16-Leads, Body 5x4.4mm, Pitch 0.65mm, IPC High Density)
footprint ADI-RU-16_M (TSOP, 16-Leads, Body 5x4.4mm, Pitch 0.65mm, IPC Low Density)
pins: 1 RSET (in) "Connecting a resistor between RSET and ground sets the maximum charge pump output current", 2 CP (out) "Charge Pump Output. When enabled, CP provides +/-ICP to the external loop filter, which in turn drives the external VCO.", 3 CPGND (power) "Charge Pump Ground. This is the ground return path for the charge pump.", 4 AGND (power) "Analog Ground. This is the ground return path of the prescaler.", 5 RFINB (in) "Complementary Input to the RF Prescaler. This pin should be decoupled to the ground plane with a small bypass capacitor, typically 100 pF", 6 RFINA (in) "Input to the RF Prescaler. This small signal input is normally ac-coupled from the VCO.", 7 AVDD (power) "Positive Power Supply for the RF Section. Decoupling capacitors to the digital ground plane should be placed as close as possible to this pin. [see datasheet]", 8 REFIN (in) "Reference Input. This is a CMOS input with a nominal threshold of VDD/2 and an equivalent input resistance of 100 k ohm. [see datasheet]", 9 DGND (power) "Digital Ground.", 10 SDVDD (power) "Sigma-Delta Power. Decoupling capacitors to the digital ground plane should be placed as close as possible to this pin. SDVDD has a value of 3 V+/-10%. [see datasheet]", 11 CLK (in) "Serial Clock Input. The serial clock is used to clock in the serial data to the registers. The data is latched into the shift register on the CLK rising edge. [see datasheet]", 12 DATA (in) "Serial Data Input. The serial data is loaded MSB first; the two LSBs are the control bits. This input is a high impedance CMOS input.", 13 LE (in) "Load Enable, CMOS Input. When LE is high, the data stored in the shift registers is loaded into one of four latches; the latch is selected using the control bits.", 14 MUXOUT (out) "This multiplexer output allows either the RF lock detect, the scaled RF, or the scaled reference frequency to be externally accessed.", 15 DVDD (power) "Positive Power Supply for the Digital Section. Decoupling capacitors to the digital ground plane should be placed as close as possible to this pin. [see datasheet]", 16 VP (power) "Charge Pump Power Supply. This should be greater than or equal to VDD. In systems where VDD is 3 V, it can be set to 5.5 V and used to drive a VCO with a tuning range of up to 5.5 V."

## ADF4153BRUZ
designator U?
Fractional-N Frequency Synthesizer, RU-16, Pb-Free, 96 Tray; Single/Dual: Single; Max RF Input (MHz): 4GHz; RF Prescalers: 4/5, 8/9; Max REFin (MHz): 250MHz; Norm Phase Noise (dBc/Hz): -220dBc; Supply Current: 20mA; DatasheetVersion: RevD; PackageVersion: Nov-2002; PackageReference: RU-16; PackageDescription: 16-Lead Thin Shrink Small Outline Package [TSSOP]; Code_JEDEC: MO-153AB; ComponentLink1Description: Manufacturer URL; ComponentLink1URL: www.analog.com; ComponentLink2Description: Datasheet; ComponentLink2URL: http://www.analog.com/static/imported-files/data_sheets/ADF4153.pdf; ComponentLink3Description: Package Specification; ComponentLink3URL: http://www.analog.com/static/imported-files/packages/36244347913743854010197452789RU16.pdf
footprint ADI-RU-16_N (TSOP, 16-Leads, Body 5x4.4mm, Pitch 0.65mm, IPC Medium Density)
footprint ADI-RU-16_L (TSOP, 16-Leads, Body 5x4.4mm, Pitch 0.65mm, IPC High Density)
footprint ADI-RU-16_M (TSOP, 16-Leads, Body 5x4.4mm, Pitch 0.65mm, IPC Low Density)
pins: 1 RSET (in) "Connecting a resistor between RSET and ground sets the maximum charge pump output current", 2 CP (out) "Charge Pump Output. When enabled, CP provides +/-ICP to the external loop filter, which in turn drives the external VCO.", 3 CPGND (power) "Charge Pump Ground. This is the ground return path for the charge pump.", 4 AGND (power) "Analog Ground. This is the ground return path of the prescaler.", 5 RFINB (in) "Complementary Input to the RF Prescaler. This pin should be decoupled to the ground plane with a small bypass capacitor, typically 100 pF", 6 RFINA (in) "Input to the RF Prescaler. This small signal input is normally ac-coupled from the VCO.", 7 AVDD (power) "Positive Power Supply for the RF Section. Decoupling capacitors to the digital ground plane should be placed as close as possible to this pin. [see datasheet]", 8 REFIN (in) "Reference Input. This is a CMOS input with a nominal threshold of VDD/2 and an equivalent input resistance of 100 k ohm. [see datasheet]", 9 DGND (power) "Digital Ground.", 10 SDVDD (power) "Sigma-Delta Power. Decoupling capacitors to the digital ground plane should be placed as close as possible to this pin. SDVDD has a value of 3 V+/-10%. [see datasheet]", 11 CLK (in) "Serial Clock Input. The serial clock is used to clock in the serial data to the registers. The data is latched into the shift register on the CLK rising edge. [see datasheet]", 12 DATA (in) "Serial Data Input. The serial data is loaded MSB first; the two LSBs are the control bits. This input is a high impedance CMOS input.", 13 LE (in) "Load Enable, CMOS Input. When LE is high, the data stored in the shift registers is loaded into one of four latches; the latch is selected using the control bits.", 14 MUXOUT (out) "This multiplexer output allows either the RF lock detect, the scaled RF, or the scaled reference frequency to be externally accessed.", 15 DVDD (power) "Positive Power Supply for the Digital Section. Decoupling capacitors to the digital ground plane should be placed as close as possible to this pin. [see datasheet]", 16 VP (power) "Charge Pump Power Supply. This should be greater than or equal to VDD. In systems where VDD is 3 V, it can be set to 5.5 V and used to drive a VCO with a tuning range of up to 5.5 V."

## ADF4153BRUZ-RL
designator U?
Fractional-N Frequency Synthesizer, RU-16, Pb-Free, 2500 Reel; Single/Dual: Single; Max RF Input (MHz): 4GHz; RF Prescalers: 4/5, 8/9; Max REFin (MHz): 250MHz; Norm Phase Noise (dBc/Hz): -220dBc; Supply Current: 20mA; DatasheetVersion: RevD; PackageVersion: Nov-2002; PackageReference: RU-16; PackageDescription: 16-Lead Thin Shrink Small Outline Package [TSSOP]; Code_JEDEC: MO-153AB; ComponentLink1Description: Manufacturer URL; ComponentLink1URL: www.analog.com; ComponentLink2Description: Datasheet; ComponentLink2URL: http://www.analog.com/static/imported-files/data_sheets/ADF4153.pdf; ComponentLink3Description: Package Specification; ComponentLink3URL: http://www.analog.com/static/imported-files/packages/36244347913743854010197452789RU16.pdf
footprint ADI-RU-16_N (TSOP, 16-Leads, Body 5x4.4mm, Pitch 0.65mm, IPC Medium Density)
footprint ADI-RU-16_L (TSOP, 16-Leads, Body 5x4.4mm, Pitch 0.65mm, IPC High Density)
footprint ADI-RU-16_M (TSOP, 16-Leads, Body 5x4.4mm, Pitch 0.65mm, IPC Low Density)
pins: 1 RSET (in) "Connecting a resistor between RSET and ground sets the maximum charge pump output current", 2 CP (out) "Charge Pump Output. When enabled, CP provides +/-ICP to the external loop filter, which in turn drives the external VCO.", 3 CPGND (power) "Charge Pump Ground. This is the ground return path for the charge pump.", 4 AGND (power) "Analog Ground. This is the ground return path of the prescaler.", 5 RFINB (in) "Complementary Input to the RF Prescaler. This pin should be decoupled to the ground plane with a small bypass capacitor, typically 100 pF", 6 RFINA (in) "Input to the RF Prescaler. This small signal input is normally ac-coupled from the VCO.", 7 AVDD (power) "Positive Power Supply for the RF Section. Decoupling capacitors to the digital ground plane should be placed as close as possible to this pin. [see datasheet]", 8 REFIN (in) "Reference Input. This is a CMOS input with a nominal threshold of VDD/2 and an equivalent input resistance of 100 k ohm. [see datasheet]", 9 DGND (power) "Digital Ground.", 10 SDVDD (power) "Sigma-Delta Power. Decoupling capacitors to the digital ground plane should be placed as close as possible to this pin. SDVDD has a value of 3 V+/-10%. [see datasheet]", 11 CLK (in) "Serial Clock Input. The serial clock is used to clock in the serial data to the registers. The data is latched into the shift register on the CLK rising edge. [see datasheet]", 12 DATA (in) "Serial Data Input. The serial data is loaded MSB first; the two LSBs are the control bits. This input is a high impedance CMOS input.", 13 LE (in) "Load Enable, CMOS Input. When LE is high, the data stored in the shift registers is loaded into one of four latches; the latch is selected using the control bits.", 14 MUXOUT (out) "This multiplexer output allows either the RF lock detect, the scaled RF, or the scaled reference frequency to be externally accessed.", 15 DVDD (power) "Positive Power Supply for the Digital Section. Decoupling capacitors to the digital ground plane should be placed as close as possible to this pin. [see datasheet]", 16 VP (power) "Charge Pump Power Supply. This should be greater than or equal to VDD. In systems where VDD is 3 V, it can be set to 5.5 V and used to drive a VCO with a tuning range of up to 5.5 V."